# Altium schematic symbol library BLDC_Gimbal_Lib.SCHLIB: 57 symbols (part 2 of 2)
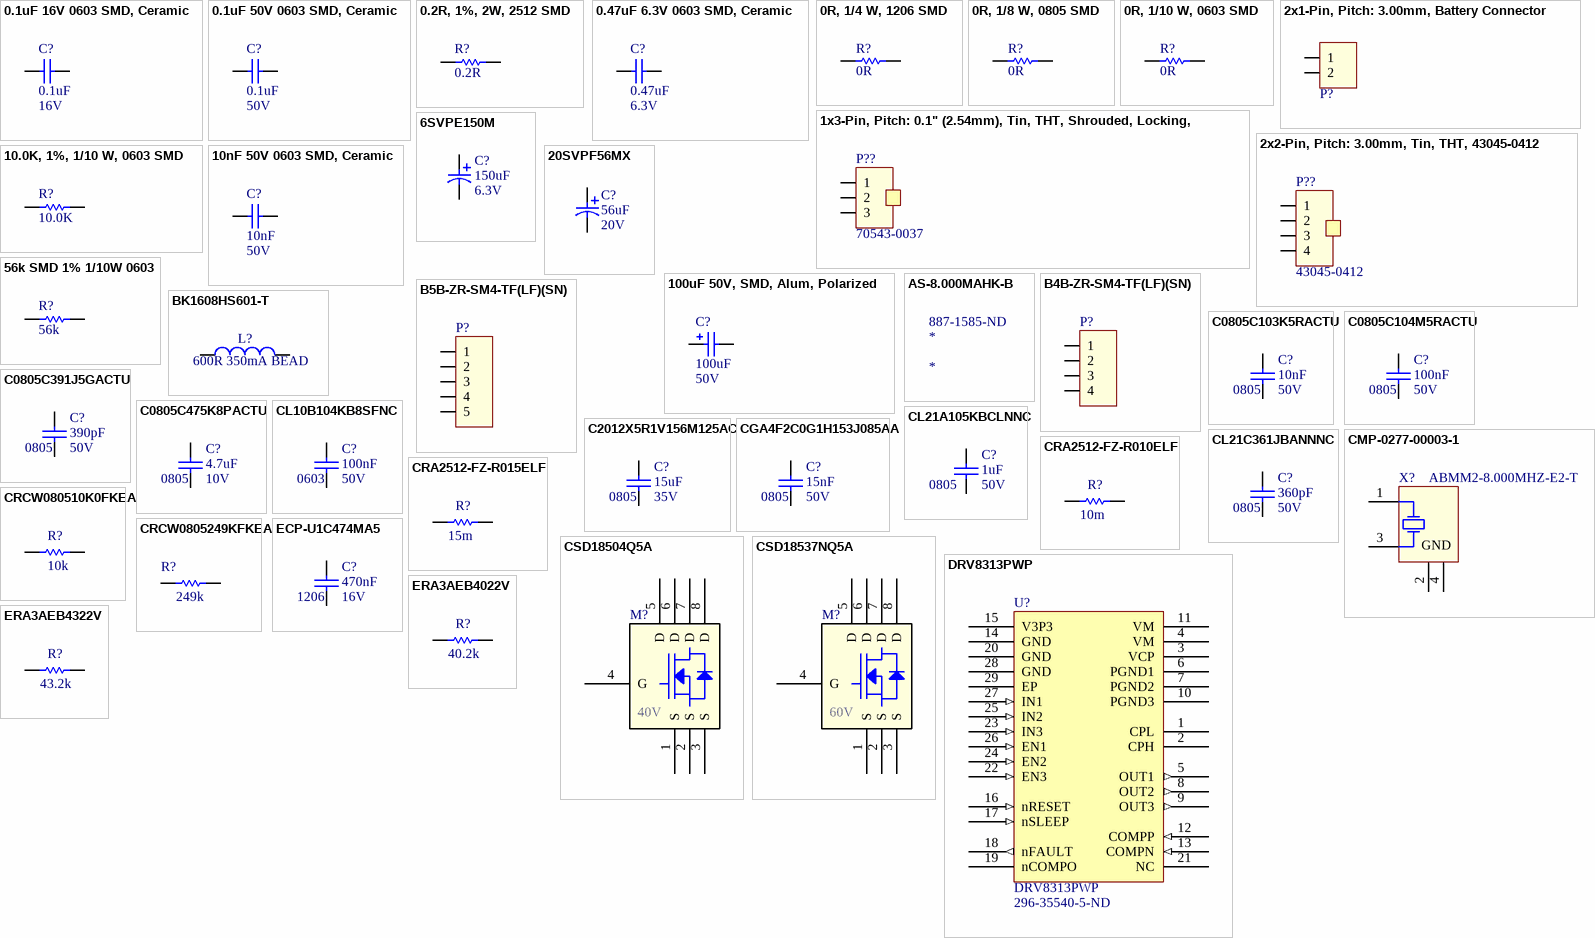
[diagram p2: symbols 0.1uF 16V 0603 SMD, Ceramic to ERA3AEB4322V]

## CSD18537NQ5A
designator M?  Drain to Source Voltage (Vdss): 60V  (hidden comment: *)
MOSFET N-CH 60V 50A 8-Pin VSON-FET EP T/R; Manufacturer: Texas Instruments; Manufacturer Part Number: CSD18537NQ5A; Rise Time: 4ns; Continuous Drain Current (ID): 62A; Gate to Source Voltage (Vgs): 20V; Fall Time: 3.2ns; Turn-Off Delay Time: 14.4ns; Turn-On Delay Time: 5.8ns; Rds On Max: 13mR; Input Capacitance: 1.48nF; Max Power Dissipation: 3.2W; Element Configuration: Single; Nominal Vgs: 3V; Number of Elements: 1; Supplier 1: Digi-Key; Stock 1: 21532; Pricing 1: 1 = 0.94000, 10 = 0.83000, 100 = 0.65610, 500 = 0.50882, 1000 = 0.40170 (USD); RoHS: Yes; Mount: Surface Mount; Number of Pins: 8; Contact Plating: Copper; Min Operating Temperature: -55°C; Max Operating Temperature: 150°C; Package Quantity: 2500; Packaging: Tape and Reel; Drain to Source Resistance: 13mR; Drain to Source Breakdown Voltage: 60V; Power Dissipation: 3.2W; Radiation Hardening: No; REACH SVHC: No SVHC; Lead Free: Contains Lead; ComponentLink1URL: https://datasheet.ciiva.com/24021/slps391a-316771-24021744.pdf?src-supplier=Mouser; ComponentLink1Description: https://datasheet.ciiva.com/24021/slps391a-316771-24021744.pdf?src-supplier=Mouser; ComponentLink2URL: https://datasheet.ciiva.com/23803/1762822-23803793.pdf?src-supplier=Newark; ComponentLink2Description: https://datasheet.ciiva.com/23803/1762822-23803793.pdf?src-supplier=Newark; ComponentLink3URL: https://datasheet.ciiva.com/29755/csd18537nq5a-29755636.pdf?src-supplier=Digi-Key; ComponentLink3Description: https://datasheet.ciiva.com/29755/csd18537nq5a-29755636.pdf?src-supplier=Digi-Key; ComponentLink4URL: https://datasheet.ciiva.com/25645/csd18537nq5a-25645525.pdf?src-supplier=Digi-Key; ComponentLink4Description: https://datasheet.ciiva.com/25645/csd18537nq5a-25645525.pdf?src-supplier=Digi-Key; ComponentLink5URL: https://datasheet.ciiva.com/30021/csd18537nq5a-30021926.pdf?src-supplier=Avnet; ComponentLink5Description: https://datasheet.ciiva.com/30021/csd18537nq5a-30021926.pdf?src-supplier=Avnet; ComponentLink6URL: https://datasheet.ciiva.com/30021/csd18537nq5a-30021927.pdf?src-supplier=Avnet; ComponentLink6Description: https://datasheet.ciiva.com/30021/csd18537nq5a-30021927.pdf?src-supplier=Avnet; ComponentLink7URL: https://datasheet.ciiva.com/18566/csd18537nq5a-18566856.pdf?src-supplier=Digi-Key; ComponentLink7Description: https://datasheet.ciiva.com/18566/csd18537nq5a-18566856.pdf?src-supplier=Digi-Key; Supplier Part Number 1: 296-36455-1-ND
footprint DQJ8
pins: 1 S, 2 S, 3 S, 4 G, 5 D, 6 D, 7 D, 8 D

## DRV8313PWP
designator U?  Supplier Part Number 1: 296-35540-5-ND
DRV8313 2.5-A Triple 1/2-H Bridge Driver; Mfg: Texas Instruments; Supplier 1: Digi-Key; LatestRevisionBy: *; LatestRevisionDate: *; LatestRevisionNote: *; Mfg#: DRV8313PWP; Published: 2017-11-16; Publisher: UVic AERO, Taylor Long; ReviewedBy: *; ReviewedDate: *; ReviewedNote: *; Verified: No
footprint HTSSOP-28 (TSOP, 28-Leads, Body 9.70x4.40mm, Pitch 0.65mm, Thermal Pad 5.18x3.10mm, IPC Medium Density)
pins: 1 CPL (power), 2 CPH (power), 3 VCP (power), 4 VM (power), 5 OUT1 (out), 6 PGND1 (power), 7 PGND2 (power), 8 OUT2 (out), 9 OUT3 (out), 10 PGND3 (power), 11 VM (power), 12 COMPP (in), 13 COMPN (in), 14 GND (power), 15 V3P3 (power), 16 nRESET (in), 17 nSLEEP (in), 18 nFAULT (out), 19 nCOMPO, 20 GND (power), 21 NC, 22 EN3 (in), 23 IN3 (in), 24 EN2 (in), 25 IN2 (in), 26 EN1 (in), 27 IN1 (in), 28 GND, 29 EP

## ECP-U1C474MA5
designator C?  Voltage Rating: 16V  Case Code (Imperial): 1206  Capacitance: 470nF  (hidden comment: *)
CAP FILM 0.47UF 20% 16VDC 1206; Manufacturer: Panasonic; Manufacturer Part Number: ECP-U1C474MA5; Dielectric: PPS; Insulation Resistance: 141MR; Supplier 1: Digi-Key; Stock 1: 70076; Pricing 1: 1 = 0.67000, 10 = 0.49500, 100 = 0.33950, 500 = 0.26876, 1000 = 0.22632 (USD); RoHS: Yes; Mount: Surface Mount; Case/Package: 1206; Case Code (Metric): 3216; Contact Plating: Copper; Min Operating Temperature: -40°C; Max Operating Temperature: 85°C; Tolerance: 20%; Packaging: Tape and Reel; Package Quantity: 2000; Voltage Rating (DC): 16V; Termination: SMD/SMT; Voltage: 16V; Length: 3.2mm; Height: 1.4mm; Depth: 1.6mm; Width: 1.6mm; Height - Seated (Max): 0.063inch; Radiation Hardening: No; REACH SVHC: No SVHC; Lead Free: Lead Free; ComponentLink1URL: https://datasheet.ciiva.com/11791/0900766b80f2ea72-11791506.pdf?src-supplier=RSComponents; ComponentLink1Description: https://datasheet.ciiva.com/11791/0900766b80f2ea72-11791506.pdf?src-supplier=RSComponents; ComponentLink2URL: https://datasheet.ciiva.com/15163/getdatasheetpartid-239730-15163927.pdf?src-supplier=Verical; ComponentLink2Description: https://datasheet.ciiva.com/15163/getdatasheetpartid-239730-15163927.pdf?src-supplier=Verical; ComponentLink3URL: https://datasheet.ciiva.com/11444/abd0000ce12-11444520.pdf?src-supplier=Avnet; ComponentLink3Description: https://datasheet.ciiva.com/11444/abd0000ce12-11444520.pdf?src-supplier=Avnet; ComponentLink4URL: https://datasheet.ciiva.com/17630/abd0000ce12-17630652.pdf?src-supplier=Avnet+Europe; ComponentLink4Description: https://datasheet.ciiva.com/17630/abd0000ce12-17630652.pdf?src-supplier=Avnet+Europe; ComponentLink5URL: https://datasheet.ciiva.com/5710/31740-5710142.pdf?src-supplier=Farnell; ComponentLink5Description: https://datasheet.ciiva.com/5710/31740-5710142.pdf?src-supplier=Farnell; ComponentLink6URL: https://datasheet.ciiva.com/2992/abd0000ce12-2992996.pdf?src-supplier=Avnet; ComponentLink6Description: https://datasheet.ciiva.com/2992/abd0000ce12-2992996.pdf?src-supplier=Avnet; ComponentLink7URL: https://datasheet.ciiva.com/46400/31740-46400042.pdf?src-supplier=Element14; ComponentLink7Description: https://datasheet.ciiva.com/46400/31740-46400042.pdf?src-supplier=Element14; ComponentLink8URL: https://datasheet.ciiva.com/46400/31740-46400043.pdf?src-supplier=Element14; ComponentLink8Description: https://datasheet.ciiva.com/46400/31740-46400043.pdf?src-supplier=Element14; Supplier Part Number 1: PCF1130CT-ND
footprint CAPC3216N(1206") (Chip Capacitor, Body 3.2x1.6mm (1206"), IPC Medium Density)
pins: 1, 2

## ERA3AEB4022V
designator R?  Resistance: 40.2k  (hidden comment: *)
RES SMD 40.2K OHM 0.1% 1/10W 0603; Manufacturer: Panasonic; Manufacturer Part Number: ERA3AEB4022V; Temperature Coefficient: 25ppm/°C; Power Rating: 100mW; Voltage Rating: 75V; Supplier 1: Digi-Key; Stock 1: 72800; Pricing 1: 1 = 0.35000, 10 = 0.30000, 100 = 0.11720, 1000 = 0.04906, 2500 = 0.04498 (USD); RoHS: Yes; Mount: Surface Mount; Case/Package: 0603; Number of Pins: 2; Contact Plating: Tin; Case Code (Metric): 1608; Case Code (Imperial): 0603; Min Operating Temperature: -55°C; Max Operating Temperature: 155°C; Tolerance: 0.1%; Composition: Thin Film; Packaging: Tape and Reel; Package Quantity: 1; Number of Terminations: 2; Military Standard: Not; Max Power Dissipation: 100mW; Voltage Rating (DC): 75V; Features: Automotive AEC-Q200; Length: 1.6mm; Height: 0.45mm; Width: 0.8mm; Depth: 0.8mm; Radiation Hardening: No; REACH SVHC: No SVHC; Lead Free: Lead Free; ComponentLink1URL: https://datasheet.ciiva.com/11809/0900766b80eb1d8c-11809819.pdf?src-supplier=RSComponents; ComponentLink1Description: https://datasheet.ciiva.com/11809/0900766b80eb1d8c-11809819.pdf?src-supplier=RSComponents; ComponentLink2URL: https://datasheet.ciiva.com/9189/aoa0000ce26-9189881.pdf?src-supplier=Avnet; ComponentLink2Description: https://datasheet.ciiva.com/9189/aoa0000ce26-9189881.pdf?src-supplier=Avnet; ComponentLink3URL: https://datasheet.ciiva.com/7870/485442-7870587.pdf?src-supplier=Element14; ComponentLink3Description: https://datasheet.ciiva.com/7870/485442-7870587.pdf?src-supplier=Element14; ComponentLink4URL: https://datasheet.ciiva.com/6129/485442-6129390.pdf?src-supplier=Farnell; ComponentLink4Description: https://datasheet.ciiva.com/6129/485442-6129390.pdf?src-supplier=Farnell; Supplier Part Number 1: P40.2KDBCT-ND
footprint RESC1608N(0603") (Chip Resistor, Body 1.6x0.8mm (0603"), IPC Medium Density)
pins: 1, 2

## ERA3AEB4322V
designator R?  Resistance: 43.2k  (hidden comment: *)
RES SMD 43.2K OHM 0.1% 1/10W 0603; Manufacturer: Panasonic; Manufacturer Part Number: ERA3AEB4322V; Temperature Coefficient: 25ppm/°C; Power Rating: 100mW; Voltage Rating: 75V; Supplier 1: Digi-Key; Stock 1: 70685; Pricing 1: 1 = 0.35000, 10 = 0.30000, 100 = 0.11720, 1000 = 0.04906, 2500 = 0.04498 (USD); RoHS: Yes; Mount: Surface Mount; Case/Package: 0603; Number of Pins: 2; Contact Plating: Tin; Case Code (Metric): 1608; Case Code (Imperial): 0603; Min Operating Temperature: -55°C; Max Operating Temperature: 155°C; Tolerance: 0.1%; Composition: Thin Film; Packaging: Tape and Reel; Package Quantity: 1; Number of Terminations: 2; Termination: SMD/SMT; Military Standard: Not; Max Power Dissipation: 100mW; Voltage Rating (DC): 75V; Features: Automotive AEC-Q200; Length: 1.6mm; Height: 0.45mm; Width: 0.8mm; Depth: 0.8mm; Radiation Hardening: No; REACH SVHC: No SVHC; Lead Free: Lead Free; ComponentLink1URL: https://datasheet.ciiva.com/11814/0900766b80eb1d8c-11814843.pdf?src-supplier=RSComponents; ComponentLink1Description: https://datasheet.ciiva.com/11814/0900766b80eb1d8c-11814843.pdf?src-supplier=RSComponents; ComponentLink2URL: https://datasheet.ciiva.com/7861/485442-7861685.pdf?src-supplier=Element14; ComponentLink2Description: https://datasheet.ciiva.com/7861/485442-7861685.pdf?src-supplier=Element14; ComponentLink3URL: https://datasheet.ciiva.com/5968/485442-5968894.pdf?src-supplier=Farnell; ComponentLink3Description: https://datasheet.ciiva.com/5968/485442-5968894.pdf?src-supplier=Farnell; ComponentLink4URL: https://datasheet.ciiva.com/9189/aoa0000ce26-9189639.pdf?src-supplier=Avnet; ComponentLink4Description: https://datasheet.ciiva.com/9189/aoa0000ce26-9189639.pdf?src-supplier=Avnet; ComponentLink5URL: https://datasheet.ciiva.com/5968/485442-5968890.pdf?src-supplier=Farnell; ComponentLink5Description: https://datasheet.ciiva.com/5968/485442-5968890.pdf?src-supplier=Farnell; Supplier Part Number 1: P43.2KDBCT-ND
footprint RESC1608N(0603") (Chip Resistor, Body 1.6x0.8mm (0603"), IPC Medium Density)
pins: 1, 2

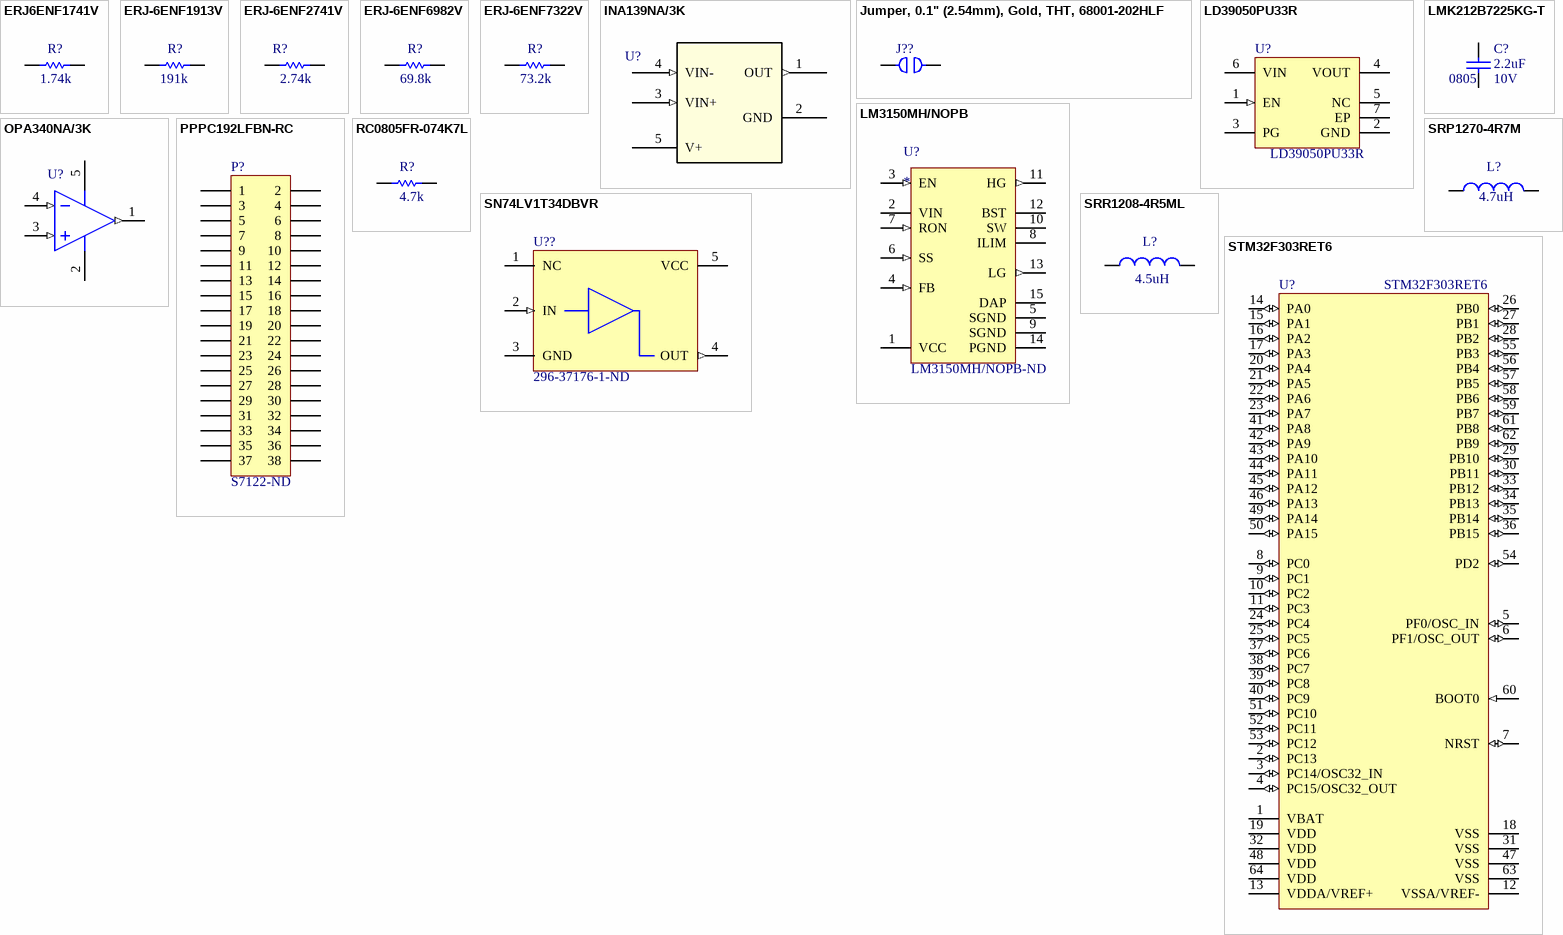
[diagram p1: symbols ERJ6ENF1741V to STM32F303RET6]

## ERJ6ENF1741V
designator R?  Resistance: 1.74k  (hidden comment: *)
RES SMD 1.74K OHM 1% 1/8W 0805; Manufacturer: Panasonic; Manufacturer Part Number: ERJ6ENF1741V; Power Rating: 125mW; Voltage Rating: 150V; Temperature Coefficient: 100ppm/°C; Supplier 1: Digi-Key; Stock 1: 142494; Pricing 1: 1 = 0.10000, 10 = 0.08100, 100 = 0.03110, 1000 = 0.01367, 2500 = 0.01181 (USD); RoHS: Yes; Mount: Surface Mount; Case/Package: 0805; Case Code (Metric): 2012; Case Code (Imperial): 0805; Contact Plating: Tin; Min Operating Temperature: -55°C; Max Operating Temperature: 155°C; Tolerance: 1%; Packaging: Tape and Reel; Package Quantity: 1; Composition: Thick Film; Number of Terminations: 2; Termination: SMD/SMT; Military Standard: Not; Max Power Dissipation: 125mW; Voltage Rating (DC): 150V; Features: Automotive AEC-Q200; Length: 2mm; Height: 0.6mm; Width: 0.049inch; Depth: 1.25mm; REACH SVHC: Unknown; Lead Free: Lead Free; ComponentLink1URL: https://datasheet.ciiva.com/3883/3984280s8821682n1386-3883650.pdf?src-supplier=Arrow; ComponentLink1Description: https://datasheet.ciiva.com/3883/3984280s8821682n1386-3883650.pdf?src-supplier=Arrow; ComponentLink2URL: https://datasheet.ciiva.com/22743/1678782-22743561.pdf?src-supplier=Farnell; ComponentLink2Description: https://datasheet.ciiva.com/22743/1678782-22743561.pdf?src-supplier=Farnell; ComponentLink3URL: https://datasheet.ciiva.com/46437/1678782-46437836.pdf?src-supplier=Element14; ComponentLink3Description: https://datasheet.ciiva.com/46437/1678782-46437836.pdf?src-supplier=Element14; ComponentLink4URL: https://datasheet.ciiva.com/22682/1678782-22682493.pdf?src-supplier=Element14; ComponentLink4Description: https://datasheet.ciiva.com/22682/1678782-22682493.pdf?src-supplier=Element14; ComponentLink5URL: https://datasheet.ciiva.com/9197/aoa0000ce2-9197802.pdf?src-supplier=Avnet; ComponentLink5Description: https://datasheet.ciiva.com/9197/aoa0000ce2-9197802.pdf?src-supplier=Avnet; ComponentLink6URL: https://datasheet.ciiva.com/24071/aoa0000ce2-24071082.pdf?src-supplier=Mouser; ComponentLink6Description: https://datasheet.ciiva.com/24071/aoa0000ce2-24071082.pdf?src-supplier=Mouser; ComponentLink7URL: https://datasheet.ciiva.com/16762/70260748-16762251.pdf?src-supplier=Allied+Electronics; ComponentLink7Description: https://datasheet.ciiva.com/16762/70260748-16762251.pdf?src-supplier=Allied+Electronics; Supplier Part Number 1: P1.74KCCT-ND
footprint RESC2012N(0805") (Chip Resistor, Body 2.0x1.3mm (0805"), IPC Medium Density)
pins: 1, 2

## ERJ-6ENF1913V
designator R?  Resistance: 191k  (hidden comment: *)
RES SMD 191K OHM 1% 1/8W 0805; Manufacturer: Panasonic; Manufacturer Part Number: ERJ-6ENF1913V; Power Rating: 125mW; Voltage Rating: 150V; Temperature Coefficient: 100ppm/°C; Supplier 1: Digi-Key; Stock 1: 22046; Pricing 1: 1 = 0.10000, 10 = 0.08100, 100 = 0.03110, 1000 = 0.01367, 2500 = 0.01181 (USD); RoHS: Yes; Mount: Surface Mount; Case/Package: 0805; Case Code (Imperial): 0805; Case Code (Metric): 2012; Contact Plating: Tin; Min Operating Temperature: -55°C; Max Operating Temperature: 155°C; Tolerance: 1%; Packaging: Tape and Reel; Package Quantity: 1; Composition: Thick Film; Number of Terminations: 2; Military Standard: Not; Max Power Dissipation: 125mW; Voltage Rating (DC): 150V; Features: Automotive AEC-Q200; Length: 2mm; Height: 0.028inch; Width: 1.2mm; Depth: 1.25mm; REACH SVHC: No SVHC; Lead Free: Lead Free; ComponentLink1URL: https://datasheet.ciiva.com/22729/1678782-22729194.pdf?src-supplier=Farnell; ComponentLink1Description: https://datasheet.ciiva.com/22729/1678782-22729194.pdf?src-supplier=Farnell; Supplier Part Number 1: P191KCCT-ND
footprint RESC2012N(0805") (Chip Resistor, Body 2.0x1.3mm (0805"), IPC Medium Density)
pins: 1, 2

## ERJ-6ENF2741V
designator R?  Resistance: 2.74k  (hidden comment: *)
RES SMD 2.74K OHM 1% 1/8W 0805; Manufacturer: Panasonic; Manufacturer Part Number: ERJ-6ENF2741V; Voltage Rating: 150V; Power Rating: 125mW; Temperature Coefficient: 100ppm/°C; Supplier 1: Digi-Key; Stock 1: 212786; Pricing 1: 1 = 0.10000, 10 = 0.08100, 100 = 0.03110, 1000 = 0.01367, 2500 = 0.01181 (USD); RoHS: Yes; Mount: Surface Mount; Case/Package: 0805; Weight: 0.000194oz; Case Code (Metric): 2012; Case Code (Imperial): 0805; Contact Plating: Tin; Min Operating Temperature: -55°C; Max Operating Temperature: 155°C; Tolerance: 1%; Packaging: Tape and Reel; Package Quantity: 5000; Composition: Thick Film; Number of Terminations: 2; Termination: SMD/SMT; Military Standard: Not; Max Power Dissipation: 125mW; Voltage Rating (DC): 150V; Length: 2mm; Height: 0.6mm; Width: 0.049inch; Depth: 1.25mm; Radiation Hardening: No; REACH SVHC: No SVHC; Lead Free: Lead Free; ComponentLink1URL: https://datasheet.ciiva.com/34303/1989210-34303628.pdf?src-supplier=Jameco; ComponentLink1Description: https://datasheet.ciiva.com/34303/1989210-34303628.pdf?src-supplier=Jameco; ComponentLink2URL: https://datasheet.ciiva.com/16773/70260748-16773765.pdf?src-supplier=Allied+Electronics; ComponentLink2Description: https://datasheet.ciiva.com/16773/70260748-16773765.pdf?src-supplier=Allied+Electronics; ComponentLink3URL: https://datasheet.ciiva.com/46389/426256-46389477.pdf?src-supplier=Element14; ComponentLink3Description: https://datasheet.ciiva.com/46389/426256-46389477.pdf?src-supplier=Element14; ComponentLink4URL: https://datasheet.ciiva.com/6129/426256-6129654.pdf?src-supplier=Farnell; ComponentLink4Description: https://datasheet.ciiva.com/6129/426256-6129654.pdf?src-supplier=Farnell; ComponentLink5URL: https://datasheet.ciiva.com/30134/aoa0000ce2-30134518.pdf?src-supplier=Onlinecomponents.com; ComponentLink5Description: https://datasheet.ciiva.com/30134/aoa0000ce2-30134518.pdf?src-supplier=Onlinecomponents.com; ComponentLink6URL: https://datasheet.ciiva.com/24162/aoa0000ce2-24162695.pdf?src-supplier=Mouser; ComponentLink6Description: https://datasheet.ciiva.com/24162/aoa0000ce2-24162695.pdf?src-supplier=Mouser; ComponentLink7URL: https://datasheet.ciiva.com/9196/aoa0000ce2-9196826.pdf?src-supplier=Avnet; ComponentLink7Description: https://datasheet.ciiva.com/9196/aoa0000ce2-9196826.pdf?src-supplier=Avnet; ComponentLink8URL: https://datasheet.ciiva.com/15159/getdatasheetpartid-32746-15159322.pdf?src-supplier=Verical; ComponentLink8Description: https://datasheet.ciiva.com/15159/getdatasheetpartid-32746-15159322.pdf?src-supplier=Verical; ComponentLink9URL: https://datasheet.ciiva.com/46377/426256-46377834.pdf?src-supplier=Element14; ComponentLink9Description: https://datasheet.ciiva.com/46377/426256-46377834.pdf?src-supplier=Element14; ComponentLink10URL: https://datasheet.ciiva.com/28531/1678782-28531694.pdf?src-supplier=Element14; ComponentLink10Description: https://datasheet.ciiva.com/28531/1678782-28531694.pdf?src-supplier=Element14; Supplier Part Number 1: P2.74KCCT-ND
footprint RESC2012N(0805") (Chip Resistor, Body 2.0x1.3mm (0805"), IPC Medium Density)
pins: 1, 2

## ERJ-6ENF6982V
designator R?  Resistance: 69.8k  (hidden comment: *)
RES SMD 69.8K OHM 1% 1/8W 0805; Manufacturer: Panasonic; Manufacturer Part Number: ERJ-6ENF6982V; Voltage Rating: 150V; Power Rating: 125mW; Temperature Coefficient: 100ppm/°C; Supplier 1: Digi-Key; Stock 1: 129613; Pricing 1: 1 = 0.10000, 10 = 0.08100, 100 = 0.03110, 1000 = 0.01367, 2500 = 0.01181 (USD); RoHS: Yes; Mount: Surface Mount; Case/Package: 0805; Case Code (Metric): 2012; Case Code (Imperial): 0805; Contact Plating: Tin; Min Operating Temperature: -55°C; Max Operating Temperature: 155°C; Packaging: Tape and Reel; Tolerance: 1%; Package Quantity: 1; Composition: Thick Film; Number of Terminations: 2; Termination: SMD/SMT; Military Standard: Not; Max Power Dissipation: 125mW; Voltage Rating (DC): 150V; Features: Automotive AEC-Q200; Length: 2mm; Height: 0.6mm; Width: 0.049inch; Depth: 1.25mm; Height - Seated (Max): 0.028inch; Radiation Hardening: No; REACH SVHC: Unknown; Lead Free: Lead Free; ComponentLink1URL: https://datasheet.ciiva.com/22682/1678782-22682501.pdf?src-supplier=Element14; ComponentLink1Description: https://datasheet.ciiva.com/22682/1678782-22682501.pdf?src-supplier=Element14; ComponentLink2URL: https://datasheet.ciiva.com/24027/aoa0000ce2-24027573.pdf?src-supplier=Mouser; ComponentLink2Description: https://datasheet.ciiva.com/24027/aoa0000ce2-24027573.pdf?src-supplier=Mouser; ComponentLink3URL: https://datasheet.ciiva.com/7937/aoa0000ce2-7937462.pdf?src-supplier=Element14; ComponentLink3Description: https://datasheet.ciiva.com/7937/aoa0000ce2-7937462.pdf?src-supplier=Element14; ComponentLink4URL: https://datasheet.ciiva.com/22730/1678782-22730040.pdf?src-supplier=Farnell; ComponentLink4Description: https://datasheet.ciiva.com/22730/1678782-22730040.pdf?src-supplier=Farnell; ComponentLink5URL: https://datasheet.ciiva.com/28592/1694929-28592344.pdf?src-supplier=Element14; ComponentLink5Description: https://datasheet.ciiva.com/28592/1694929-28592344.pdf?src-supplier=Element14; ComponentLink6URL: https://datasheet.ciiva.com/9187/aoa0000ce2-9187962.pdf?src-supplier=Avnet; ComponentLink6Description: https://datasheet.ciiva.com/9187/aoa0000ce2-9187962.pdf?src-supplier=Avnet; ComponentLink7URL: https://datasheet.ciiva.com/16789/70260748-16789163.pdf?src-supplier=Allied+Electronics; ComponentLink7Description: https://datasheet.ciiva.com/16789/70260748-16789163.pdf?src-supplier=Allied+Electronics; Supplier Part Number 1: P69.8KCCT-ND
footprint RESC2012N(0805") (Chip Resistor, Body 2.0x1.3mm (0805"), IPC Medium Density)
pins: 1, 2

## ERJ-6ENF7322V
designator R?  Resistance: 73.2k  (hidden comment: *)
RES SMD 73.2K OHM 1% 1/8W 0805; Manufacturer: Panasonic; Manufacturer Part Number: ERJ-6ENF7322V; Power Rating: 125mW; Voltage Rating: 150V; Temperature Coefficient: 100ppm/°C; Supplier 1: Digi-Key; Stock 1: 155375; Pricing 1: 1 = 0.10000, 10 = 0.08100, 100 = 0.03110, 1000 = 0.01367, 2500 = 0.01181 (USD); RoHS: Yes; Mount: Surface Mount; Case/Package: 0805; Case Code (Metric): 2012; Case Code (Imperial): 0805; Contact Plating: Tin; Min Operating Temperature: -55°C; Max Operating Temperature: 155°C; Tolerance: 1%; Packaging: Tape and Reel; Package Quantity: 1; Composition: Thick Film; Number of Terminations: 2; Termination: SMD/SMT; Military Standard: Not; Max Power Dissipation: 125mW; Voltage Rating (DC): 150V; Features: Automotive AEC-Q200; Length: 2mm; Height: 0.028inch; Width: 0.049inch; Depth: 1.25mm; REACH SVHC: Yes; Lead Free: Contains Lead; ComponentLink1URL: https://datasheet.ciiva.com/22682/1678782-22682502.pdf?src-supplier=Element14; ComponentLink1Description: https://datasheet.ciiva.com/22682/1678782-22682502.pdf?src-supplier=Element14; ComponentLink2URL: https://datasheet.ciiva.com/7862/aoa0000ce2-7862010.pdf?src-supplier=Element14; ComponentLink2Description: https://datasheet.ciiva.com/7862/aoa0000ce2-7862010.pdf?src-supplier=Element14; ComponentLink3URL: https://datasheet.ciiva.com/15830/aoa0000ce2-15830506.pdf?src-supplier=Onlinecomponents.com; ComponentLink3Description: https://datasheet.ciiva.com/15830/aoa0000ce2-15830506.pdf?src-supplier=Onlinecomponents.com; ComponentLink4URL: https://datasheet.ciiva.com/46373/1678782-46373845.pdf?src-supplier=Element14; ComponentLink4Description: https://datasheet.ciiva.com/46373/1678782-46373845.pdf?src-supplier=Element14; ComponentLink5URL: https://datasheet.ciiva.com/9187/aoa0000ce2-9187800.pdf?src-supplier=Avnet; ComponentLink5Description: https://datasheet.ciiva.com/9187/aoa0000ce2-9187800.pdf?src-supplier=Avnet; ComponentLink6URL: https://datasheet.ciiva.com/24061/aoa0000ce2-24061742.pdf?src-supplier=Mouser; ComponentLink6Description: https://datasheet.ciiva.com/24061/aoa0000ce2-24061742.pdf?src-supplier=Mouser; Supplier Part Number 1: P73.2KCCT-ND
footprint RESC2012N(0805") (Chip Resistor, Body 2.0x1.3mm (0805"), IPC Medium Density)
pins: 1, 2

## INA139NA/3K
designator U?, comment Part Number: INA139NA/3K  (value not drawn)
Votlage Comparator; Manufacturer: Texas Instruments; Built_By: EMA_UL_Team; Min Supply Voltage: 2.7V; Max Supply Voltage: 40V; Number of Channels: 1; Common Mode Rejection Ratio: 100dB; Nominal Supply Current: 125uA; Input Offset Voltage (Vos): 1mV; Input Bias Current: 10uA; Accuracy: 0.5%; Bandwidth: 440kHz; Manufacturer_Part_Number: INA139NA/3K; Vendor: Texas Instruments; Copyright: Copyright (C) 2018 Accelerated Designs. All rights reserved; RefDes: RefDes; Type: DEV; Value: Value; Supplier 1: Digi-Key; Manufacturer Part Number: INA139NA/3K; Stock 1: 23950; Pricing 1: 1 = 1.74000, 10 = 1.56100, 100 = 1.25490, 500 = 1.03104, 1000 = 0.85428 (USD); RoHS: Yes; Mount: Surface Mount; Case/Package: SOT-23; Number of Pins: 5; Weight: 0.000617oz; Min Operating Temperature: -40°C; Max Operating Temperature: 125°C; Packaging: Tape and Reel; Package Quantity: 3000; Number of Elements: 1; Radiation Hardening: No; Lead Free: Lead Free; ComponentLink1URL: https://datasheet.ciiva.com/15128/getdatasheetpartid-248784-15128606.pdf?src-supplier=Verical; ComponentLink1Description: https://datasheet.ciiva.com/15128/getdatasheetpartid-248784-15128606.pdf?src-supplier=Verical; ComponentLink2URL: https://datasheet.ciiva.com/26875/ina139na-3k-26875768.pdf?src-supplier=IIIC; ComponentLink2Description: https://datasheet.ciiva.com/26875/ina139na-3k-26875768.pdf?src-supplier=IIIC; ComponentLink3URL: https://datasheet.ciiva.com/2976/ina169-2976115.pdf?src-supplier=Avnet; ComponentLink3Description: https://datasheet.ciiva.com/2976/ina169-2976115.pdf?src-supplier=Avnet; ComponentLink4URL: https://datasheet.ciiva.com/1939/ina139-1939992.pdf?src-supplier=Digi-Key; ComponentLink4Description: https://datasheet.ciiva.com/1939/ina139-1939992.pdf?src-supplier=Digi-Key; ComponentLink5URL: https://datasheet.ciiva.com/1939/ina139-1939993.pdf?src-supplier=Digi-Key; ComponentLink5Description: https://datasheet.ciiva.com/1939/ina139-1939993.pdf?src-supplier=Digi-Key; ComponentLink6URL: https://datasheet.ciiva.com/1939/ina139-1939994.pdf?src-supplier=Digi-Key; ComponentLink6Description: https://datasheet.ciiva.com/1939/ina139-1939994.pdf?src-supplier=Digi-Key; Supplier Part Number 1: 296-26061-1-ND
footprint DBV5
footprint DBV5-L
footprint DBV5-M
pins: 1 OUT (out), 2 GND (power), 3 VIN+ (in), 4 VIN- (in), 5 V+ (power)

## Jumper, 0.1" (2.54mm), Gold, THT, 68001-202HLF
designator J??, comment 3M9580-ND  (value not drawn)
Jumper, 0.1" (2.54mm), Gold, THT, 68001-202HLF & 3M9580-ND; Mfg: FCI; Publisher: UVic AERO, Kirk Richardson; Published: 2014-10-19; LatestRevisionNote: *; LatestRevisionDate: *; Mfg#: 68001-202HLF; Verified: No; ReviewedBy: *; ReviewedDate: *; LatestRevisionBy: *; Supplier 1: Digi-Key; Supplier 2: Digi-Key; Supplier Part Number 1: 3M9580-ND; Supplier Part Number 2: 609-3469-ND
footprint Jumper-2Pin, THT (Jumper, 2-Pin, 0.1" Pitch, Unshrouded, THT)
pins: 1, 2

## LD39050PU33R
designator U?
500 mA Low Quiescent Current Low Noise Voltage Regulator, 3.3V, 6-Pin VDFDPN, Tape and Reel CMP-0244-00288-; PackageReference: DFN6D; ComponentLink1Description: Manufacturer URL; ComponentLink1URL: http://www.st.com; PackageVersion: 2008; PackageDescription: 6-Pin Plastic, Dual LLP, 3 x 3 mm Body, 0.95 mm Pitch, Exposed Pad; ComponentLink2URL: http://www.st.com/internet/com/TECHNICAL_RESOURCES/TECHNICAL_LITERATURE/DATASHEET/CD00227527.pdf; DatasheetVersion: 1/03/2009; ComponentLink2Description: Datasheet
footprint LDO3_3-DFN6D_M (SON, 6-Leads, Body 3x3mm, Pitch 0.95mm, Thermal Pad 2.4x1.65mm, IPC Low Density)
pins: 1 EN (in), 2 GND (power), 3 PG (oc), 4 VOUT (power), 5 NC, 6 VIN (power), 7 EP (power)

## LM3150MH/NOPB
designator U?  Supplier Part Number 1: LM3150MH/NOPB-ND
LM3150 - DC DC Cntrlr Single-OUT Step Down 6V to 42V Input 14-Pin HTSSOP EP Tube; Manufacturer: TI National Semiconductor; Manufacturer Part Number: LM3150MH/NOPB; Number of Outputs: 1; Output Current: 12A; Output Voltage: 600mV; Max Frequency: 1MHz; Duty Cycle: 95%; Quiescent Current: 3.5mA; Supplier 1: Digi-Key; Stock 1: 2498; Pricing 1: 1 = 3.78000, 10 = 3.39400, 94 = 3.20851, 188 = 2.78069, 564 = 2.36716, 1034 = 1.99640, 2538 = 1.89658, 5076 = 1.82528 (USD); RoHS: Yes; Mount: Surface Mount; Case/Package: HTSSOP EP; Number of Pins: 14; Contact Plating: Tin; Min Operating Temperature: -40°C; Max Operating Temperature: 125°C; Packaging: Rail/Tube; Features: UVLO; Max Input Voltage: 42V; Min Input Voltage: 6V; Switching Frequency: 1MHz; Min Supply Voltage: 6V; Max Supply Voltage: 42V; Min Output Voltage: 600mV; Length: 5mm; Height: 0.9mm; Width: 4.4mm; Radiation Hardening: No; REACH SVHC: No SVHC; Lead Free: Lead Free; ComponentLink1URL: https://datasheet.ciiva.com/15113/getdatasheetpartid-147301-15113226.pdf?src-supplier=Verical; ComponentLink1Description: https://datasheet.ciiva.com/15113/getdatasheetpartid-147301-15113226.pdf?src-supplier=Verical
footprint PWP0014A_M (SOP, 14-Leads, Body 5.1x4.5mm, Pitch 0.65mm, Thermal Pad 3x3.1mm, IPC Low Density)
pins: 1 VCC (power), 2 VIN (power), 3 EN (in), 4 FB (in), 5 SGND (power), 6 SS (in), 7 RON (in), 8 ILIM, 9 SGND (power), 10 SW (power), 11 HG (out), 12 BST, 13 LG (out), 14 PGND (power), 15 DAP (power)

## LMK212B7225KG-T
designator C?  Capacitance: 2.2uF  Voltage Rating: 10V  Case/Package: 0805  (hidden comment: *)
CAP CER 2.2UF 10V X7R 0805; Manufacturer: Taiyo Yuden; Manufacturer Part Number: LMK212B7225KG-T; Tolerance: 10%; Supplier 1: Digi-Key; Stock 1: 73012; Pricing 1: 1 = 0.21000, 10 = 0.14600, 100 = 0.06880, 500 = 0.04822, 1000 = 0.03993 (USD); RoHS: Yes; Mount: Surface Mount; Case Code (Imperial): 0805; Case Code (Metric): 2012; Min Operating Temperature: -55°C; Max Operating Temperature: 125°C; Dielectric: X7R; Packaging: Tape and Reel; Package Quantity: 1; Voltage Rating (DC): 10V; Termination: SMD/SMT; Composition: Ceramic; Length: 2mm; Height: 1.25mm; Depth: 1.25mm; Width: 1.25mm; Thickness: 0.053inch; Radiation Hardening: No; Lead Free: Lead Free; REACH SVHC: Unknown; Halogen Free: Halogen Free; ComponentLink1URL: https://datasheet.ciiva.com/11464/lmk212b7225kg-t-ss-11464065.pdf?src-supplier=Avnet; ComponentLink1Description: https://datasheet.ciiva.com/11464/lmk212b7225kg-t-ss-11464065.pdf?src-supplier=Avnet; ComponentLink2URL: https://datasheet.ciiva.com/30097/950lmk212b7225kg-t-30097799.pdf?src-supplier=Onlinecomponents.com; ComponentLink2Description: https://datasheet.ciiva.com/30097/950lmk212b7225kg-t-30097799.pdf?src-supplier=Onlinecomponents.com; ComponentLink3URL: https://datasheet.ciiva.com/15921/1069lmk212b7225kg-t-15921336.pdf?src-supplier=Onlinecomponents.com; ComponentLink3Description: https://datasheet.ciiva.com/15921/1069lmk212b7225kg-t-15921336.pdf?src-supplier=Onlinecomponents.com; ComponentLink4URL: https://datasheet.ciiva.com/26872/getdatasheetpartid-637084-26872681.pdf?src-supplier=Verical; ComponentLink4Description: https://datasheet.ciiva.com/26872/getdatasheetpartid-637084-26872681.pdf?src-supplier=Verical; Supplier Part Number 1: 587-1286-1-ND
footprint CAPC2012N(0805") (Chip Capacitor, Body 2.0x1.3mm (0805"), IPC Medium Density)
pins: 1, 2

## OPA340NA/3K
designator U?  (value not drawn)
Single-Supply, Rail-to-Rail Operational Amplifier MicroAmplifier(TM) Series, 2.7 to 5.5 V, -40 to 85 degC, 5-pin SOT23 (DBV5), Green (RoHS & no Sb/Br) CMP-0272-00929-3; Manufacturer: Texas Instruments; Vio (25C)(Max)(mV): 0.5; CMRR(Min)(dB): 80; IIB(Max)(pA): 10; Number of Channels: 1; Total Supply Voltage(Min)(+5V is 5, +/-5V is 10): 2.7; Iq per channel(Max)(mA): 0.95; Slew Rate(Typ)(V/us): 6; Offset Drift(Typ)(uV/C): 2.5; Total Supply Voltage(Max)(+5V is 5, +/-5V is 10): 5.5; Sub Family: Low Input Bias Current Amp (<=10pA), Low Offset Voltage Amplifier (<=500uV), Low Supply Voltage Amplifier (<=2.7V), Precision Amplifier; Vn at 1kHz(Typ)(nV/rtHz): 25; PackageVersion: 4073253-4/K, 03/2006; PackageDescription: 5-Pin Plastic Small Outline, Body 1.6 x 2.9 mm, Pitch 0.95 mm; ComponentLink3URL: http://www.ti.com/litv/pdf/mpds018i; DatasheetVersion: SBOS073B; ComponentLink1Description: Manufacturer URL; ComponentLink1URL: http://www.ti.com/; Eco-Plan: Green (RoHS & no Sb/Br); Code_JEDEC: MO-178; ComponentLink3Description: Package Specification; ComponentLink2URL: http://www.ti.com/general/docs/lit/getliterature.tsp?genericPartNumber=OPA340&fileType=pdf; ComponentLink2Description: Datasheet; PackageReference: DBV0005A; PartNumber: OPA340NA/3K; Mounting Technology: Surface Mount
footprint DBV0005A_M (SOT23, 5-Leads, Body 3.05x1.75mm, Pitch 0.95mm, IPC Low Density)
footprint DBV0005A_L (SOT23, 5-Leads, Body 3.05x1.75mm, Pitch 0.95mm, IPC High Density)
footprint DBV0005A_N (SOT23, 5-Leads, Body 3.05x1.75mm, Pitch 0.95mm, IPC Medium Density)
pins: 1 OUT (out), 2 V- (power), 3 IN+ (in), 4 IN- (in), 5 V+ (power)

## PPPC192LFBN-RC
designator P?  Supplier Part Number 1: S7122-ND  (hidden comment: PPPC192LFBN-RC)
CONN HDR 38POS 0.1 GOLD PCB; Manufacturer: Sullins; Number of Positions: 38; Connector Type: Header; Pitch: 0.1inch; Supplier 1: Digi-Key; Manufacturer Part Number: PPPC192LFBN-RC; Stock 1: 3549; Pricing 1: 1 = 2.26000, 10 = 2.05100, 100 = 1.75770, 500 = 1.46476, 1000 = 1.25550, 5000 = 1.20900 (USD); RoHS: Yes; Mount: Through Hole; Color: Black; Contact Plating: Gold; Contact Material: Bronze; Housing Material: Plastic; Package Quantity: 1000; Number of Rows: 2; Packaging: Bulk; Termination: Solder; Length: 48.8mm; Height: 8.5mm; Row Spacing: 0.1inch; Width: 5mm; Lead Free: Lead Free; ComponentLink1URL: https://media.digikey.com/pdf/Data%20Sheets/Sullins%20PDFs/Female_Headers.100_DS.pdf?src-supplier=Digi-Key; ComponentLink1Description: https://media.digikey.com/pdf/Data%20Sheets/Sullins%20PDFs/Female_Headers.100_DS.pdf?src-supplier=Digi-Key
footprint HEADER-38PIN
pins: 1, 2, 3, 4, 5, 6, 7, 8, 9, 10, 11, 12, 13, 14, 15, 16, 17, 18, 19, 20, 21, 22, 23, 24, 25, 26, 27, 28, 29, 30, 31, 32, 33, 34, 35, 36, 37, 38

## RC0805FR-074K7L
designator R?, comment 4.7k
RES SMD 4.7k ohm, 150 V, 0805 [2012 Metric], 250 mW,  1%; Manufacturer: Yageo; Manufacturer Part Number: RC0805FR-074K7L; Resistance: 4.7kR; Temperature Coefficient: 100ppm/°C; Voltage Rating (DC): 150V; Power Rating: 125mW; Supplier 1: Digi-Key; Stock 1: 5392599; Pricing 1: 1 = 0.10000, 10 = 0.04200, 100 = 0.01700, 1000 = 0.00762, 2500 = 0.00662 (USD); RoHS: Yes; Case/Package: 0805; Number of Pins: 2; Case Code (Metric): 2012; Case Code (Imperial): 0805; Min Operating Temperature: -55°C; Max Operating Temperature: 155°C; Tolerance: 1%; Composition: Thick Film; Packaging: Tape and Reel; Package Quantity: 5000; Voltage Rating: 150V; Number of Terminations: 2; Termination: SMD/SMT; Military Standard: Not; Max Power Dissipation: 125mW; Features: Moisture Resistant; Length: 0.079inch; Height: 0.024inch; Width: 0.049inch; Depth: 1.25mm; REACH SVHC: No SVHC; Lead Free: Lead Free; ComponentLink1URL: https://datasheet.ciiva.com/11808/0900766b8106beab-11808155.pdf?src-supplier=RSComponents; ComponentLink1Description: https://datasheet.ciiva.com/11808/0900766b8106beab-11808155.pdf?src-supplier=RSComponents; ComponentLink2URL: https://datasheet.ciiva.com/7941/1686128-7941805.pdf?src-supplier=Element14; ComponentLink2Description: https://datasheet.ciiva.com/7941/1686128-7941805.pdf?src-supplier=Element14; ComponentLink3URL: https://datasheet.ciiva.com/7941/444164-7941806.pdf?src-supplier=Element14; ComponentLink3Description: https://datasheet.ciiva.com/7941/444164-7941806.pdf?src-supplier=Element14; ComponentLink4URL: https://datasheet.ciiva.com/6547/pyu-r-int-thick-7-6547263.pdf?src-supplier=Digi-Key; ComponentLink4Description: https://datasheet.ciiva.com/6547/pyu-r-int-thick-7-6547263.pdf?src-supplier=Digi-Key; ComponentLink5URL: https://datasheet.ciiva.com/7941/444164-7941804.pdf?src-supplier=Element14; ComponentLink5Description: https://datasheet.ciiva.com/7941/444164-7941804.pdf?src-supplier=Element14; ComponentLink6URL: https://datasheet.ciiva.com/46447/444164-46447583.pdf?src-supplier=Element14; ComponentLink6Description: https://datasheet.ciiva.com/46447/444164-46447583.pdf?src-supplier=Element14; Supplier Part Number 1: 311-4.70KCRCT-ND
footprint RESC2012N(0805") (Chip Resistor, Body 2.0x1.3mm (0805"), IPC Medium Density)
pins: 1, 2

## SN74LV1T34DBVR
designator U??  Supplier Part Number 1: 296-37176-1-ND  (hidden comment: SN74LV1T34DBVR)
IC BUF NON-INVERT 5.5V SOT23-5; Manufacturer: Texas Instruments; Number of Elements: 1; Logic Function: Buffer; Min Supply Voltage: 1.6V; High Level Output Current: -8mA; Low Level Output Current: 8mA; Polarity: Non-Inverting; Propagation Delay: 15.5ns; Quiescent Current: 1uA; Supplier 1: Digi-Key; Manufacturer Part Number: SN74LV1T34DBVR; Stock 1: 20051; Pricing 1: 1 = 0.47000, 10 = 0.37800, 100 = 0.25710, 500 = 0.19282, 1000 = 0.14461 (USD); RoHS: Yes; Mount: Surface Mount; Case/Package: SOT-23-5; Number of Pins: 5; Weight: 0.000353oz; Min Operating Temperature: -40°C; Max Operating Temperature: 125°C; Package Quantity: 3000; Packaging: Tape and Reel; Max Supply Voltage: 5.5V; Number of Bits per Element: 1; Number of Input Lines: 1; Number of Output Lines: 1; Operating Supply Current: 8mA; Number of Channels: 1; Number of Inputs: 1; Number of Outputs: 1; Number of Bits: 1; Radiation Hardening: No; REACH SVHC: No SVHC; Lead Free: Lead Free; ComponentLink1URL: https://datasheet.ciiva.com/29634/sn74lv1t34-29634758.pdf?src-supplier=Digi-Key; ComponentLink1Description: https://datasheet.ciiva.com/29634/sn74lv1t34-29634758.pdf?src-supplier=Digi-Key; ComponentLink2URL: https://datasheet.ciiva.com/29634/sn74lv1t34-29634759.pdf?src-supplier=Digi-Key; ComponentLink2Description: https://datasheet.ciiva.com/29634/sn74lv1t34-29634759.pdf?src-supplier=Digi-Key; ComponentLink3URL: https://datasheet.ciiva.com/29634/sn74lv1t34-29634760.pdf?src-supplier=Digi-Key; ComponentLink3Description: https://datasheet.ciiva.com/29634/sn74lv1t34-29634760.pdf?src-supplier=Digi-Key; ComponentLink4URL: https://datasheet.ciiva.com/29888/sn74lv1t34-29888041.pdf?src-supplier=Avnet; ComponentLink4Description: https://datasheet.ciiva.com/29888/sn74lv1t34-29888041.pdf?src-supplier=Avnet
footprint DBV0005A_M (SOT23, 5-Leads, Body 3.05x1.75mm, Pitch 0.95mm, IPC Low Density)
pins: 1 NC "Ground", 2 IN (in) "Input", 3 GND (power) "Ground Pin", 4 OUT (out) "Output", 5 VCC (power) "Power Pin"

## SRP1270-4R7M
designator L?  Inductance: 4.7uH  (hidden comment: *)
FIXED IND 4.7uH 20% SMD 1270; Manufacturer: Bourns; Manufacturer Part Number: SRP1270-4R7M; Core Material: Ferrite; DC Resistance (DCR): 11.2mR; Max DC Current: 15A; Saturation Current: 30A; Shielding: Shielded; Self Resonant Frequency: 15MHz; Test Frequency: 100kHz; Current: 35A; Supplier 1: Digi-Key; Stock 1: 8527; Pricing 1: 1 = 1.68000, 10 = 1.55300, 100 = 1.08680 (USD); RoHS: Yes; Mount: Surface Mount; Case/Package: 1270; Number of Pins: 2; Min Operating Temperature: -55°C; Max Operating Temperature: 125°C; Tolerance: 20%; Packaging: Tape and Reel; Package Quantity: 400; Current Rating: 15A; Inductance Tolerance: 20%; Composition: Wirewound; Termination: SMD/SMT; RMS Current (Irms): 15A; DC Current: 15A; Military Standard: Not; Length: 13.7mm; Height: 7mm; Width: 13.7mm; Height - Seated (Max): 0.276inch; Depth: 13.7mm; REACH SVHC: No SVHC; ComponentLink1URL: https://datasheet.ciiva.com/11803/0900766b80f2b679-11803001.pdf?src-supplier=RSComponents; ComponentLink1Description: https://datasheet.ciiva.com/11803/0900766b80f2b679-11803001.pdf?src-supplier=RSComponents; ComponentLink2URL: https://datasheet.ciiva.com/17286/srp1270-17286216.pdf?src-supplier=Avnet+Europe; ComponentLink2Description: https://datasheet.ciiva.com/17286/srp1270-17286216.pdf?src-supplier=Avnet+Europe; ComponentLink3URL: https://datasheet.ciiva.com/30242/484srp1270-30242620.pdf?src-supplier=Onlinecomponents.com; ComponentLink3Description: https://datasheet.ciiva.com/30242/484srp1270-30242620.pdf?src-supplier=Onlinecomponents.com; ComponentLink4URL: https://datasheet.ciiva.com/17045/70277161-17045933.pdf?src-supplier=Allied+Electronics; ComponentLink4Description: https://datasheet.ciiva.com/17045/70277161-17045933.pdf?src-supplier=Allied+Electronics; ComponentLink5URL: https://datasheet.ciiva.com/8515/srp1270-8515814.pdf?src-supplier=Avnet; ComponentLink5Description: https://datasheet.ciiva.com/8515/srp1270-8515814.pdf?src-supplier=Avnet; ComponentLink6URL: https://datasheet.ciiva.com/8517/srp1270-8517062.pdf?src-supplier=Avnet; ComponentLink6Description: https://datasheet.ciiva.com/8517/srp1270-8517062.pdf?src-supplier=Avnet; ComponentLink7URL: https://datasheet.ciiva.com/7849/1834359-7849561.pdf?src-supplier=Element14; ComponentLink7Description: https://datasheet.ciiva.com/7849/1834359-7849561.pdf?src-supplier=Element14; Supplier Part Number 1: SRP1270-4R7MCT-ND
footprint IND_BOURNS_SRP01_large
pins: 1, 2

## SRR1208-4R5ML
designator L?  Inductance: 4.5uH  (hidden comment: *)
FIXED IND 4.5UH 6.5A 14 MOHM SMD; Manufacturer: Bourns; Manufacturer Part Number: SRR1208-4R5ML; Core Material: Ferrite; Material: Steel; Tolerance: 20%; DC Resistance (DCR): 14mR; Saturation Current: 10A; Shielding: Shielded; Self Resonant Frequency: 30MHz; Q Factor: 24; Test Frequency: 1kHz; Supplier 1: Digi-Key; Stock 1: 831; Pricing 1: 1 = 1.13000, 10 = 1.04700, 100 = 0.75670 (USD); RoHS: Yes; Mount: Surface Mount; Case/Package: 1208; Min Operating Temperature: -40°C; Max Operating Temperature: 125°C; Max DC Current: 6.5A; Packaging: Tape and Reel; Package Quantity: 400; Current Rating: 6.5A; Frequency: 30MHz; Inductance Tolerance: 20%; Resistance: 14MR; Composition: Wirewound; Termination: SMD/SMT; DC Current: 6.5A; Military Standard: Not; RMS Current (Irms): 6.5A; Length: 12.7mm; Height: 8.5mm; Width: 0.5inch; Height - Seated (Max): 0.335inch; Depth: 13mm; REACH SVHC: No SVHC; ComponentLink1URL: https://datasheet.ciiva.com/11803/0900766b80defdeb-11803005.pdf?src-supplier=RSComponents; ComponentLink1Description: https://datasheet.ciiva.com/11803/0900766b80defdeb-11803005.pdf?src-supplier=RSComponents; ComponentLink2URL: https://datasheet.ciiva.com/1060/srr1208-1060209.pdf?src-supplier=Digi-Key; ComponentLink2Description: https://datasheet.ciiva.com/1060/srr1208-1060209.pdf?src-supplier=Digi-Key; ComponentLink3URL: https://datasheet.ciiva.com/1060/srr1208-1060210.pdf?src-supplier=Digi-Key; ComponentLink3Description: https://datasheet.ciiva.com/1060/srr1208-1060210.pdf?src-supplier=Digi-Key; ComponentLink4URL: https://datasheet.ciiva.com/30091/srr1208-30091109.pdf?src-supplier=Onlinecomponents.com; ComponentLink4Description: https://datasheet.ciiva.com/30091/srr1208-30091109.pdf?src-supplier=Onlinecomponents.com; ComponentLink5URL: https://datasheet.ciiva.com/17285/srr1208-17285910.pdf?src-supplier=Avnet+Europe; ComponentLink5Description: https://datasheet.ciiva.com/17285/srr1208-17285910.pdf?src-supplier=Avnet+Europe; ComponentLink6URL: https://datasheet.ciiva.com/7849/1483756-7849582.pdf?src-supplier=Element14; ComponentLink6Description: https://datasheet.ciiva.com/7849/1483756-7849582.pdf?src-supplier=Element14; Supplier Part Number 1: SRR1208-4R5MLCT-ND
footprint IND_BOURNS_SRR12
pins: 1, 2

## STM32F303RET6
designator U?
ARM Cortex-M4 32-bit MCU, 512 KB Flash, 80 KB Internal RAM, 51 I/Os, 64-Pin LQFP, -40 to 85 degC, Tray CMP-0537-00048-1; Operating Frequency(F) (Processor speed) (MHz): 72; FLASH Size (Prog) (kB): 512; Internal RAM Size (kB): 80; I/Os (High Current): 51; D/A Converter: 2; ComponentLink2Description: Datasheet; ComponentLink1URL: http://www.st.com/; ComponentLink1Description: Manufacturer URL; Package Description: 64-Pin Low-profile Quad Flat Package, Body 10 x 10 mm, Pitch 0.5 mm; Package Reference: LQFP64; Mounting Technology: Surface Mount; Packing: Tray; Core: ARM Cortex-M4; ComponentLink2URL: http://www.st.com/st-web-ui/static/active/en/resource/technical/document/datasheet/DM00118585.pdf; DatasheetVersion: Rev. 5; Supply Voltage(Vcc) min (V): 2
footprint STM-LQFP64_L (QFP, 64-Leads, Body 10x10mm, Pitch 0.5mm, IPC High Density)
footprint STM-LQFP64_M (QFP, 64-Leads, Body 10x10mm, Pitch 0.5mm, IPC Low Density)
footprint STM-LQFP64_N (QFP, 64-Leads, Body 10x10mm, Pitch 0.5mm, IPC Medium Density)
pins: 1 VBAT (power) "Backup power supply", 2 PC13 (io) "PC13/TIM1_CH1N/RTC_TAMP1/RTC_TS/RTC_OUT/WKUP2", 3 PC14/OSC32_IN (io), 4 PC15/OSC32_OUT (io), 5 PF0/OSC_IN (io) "PF0/TIM1_CH3N/OSC_IN", 6 PF1/OSC_OUT (io), 7 NRST (io) "Device reset input/internal reset output (active low)", 8 PC0 (io) "PC0/EVENTOUT,TIM1_CH1/ADC12_IN6", 9 PC1 (io) "PC1/EVENTOUT,TIM1_CH2/ADC12_IN7", 10 PC2 (io) "PC2/EVENTOUT,TIM1_CH3/ADC12_IN8", 11 PC3 (io) "PC3/EVENTOUT,TIM1_CH4,TIM1_BKIN2/ADC12_IN9", 12 VSSA/VREF- (power) "Analog ground/Negative reference voltage", 13 VDDA/VREF+ (power) "Analog power supply/Positive reference voltage", 14 PA0 (io) "PA0/TIM2_CH1/TIM2_ETR,TSC_G1_IO1,USART2_CTS,EVENTOUT/ADC1_IN1,RTC_TAMP2/WKUP1", 15 PA1 (io) "PA1/TIM2_CH2,TSC_G1_IO2,USART2_RTS_DE,TIM15_CH1N,EVENTOUT/ADC1_IN2,RTC_REFIN", 16 PA2 (io) "PA2/TIM2_CH3,TSC_G1_IO3,USART2_TX,COMP2_OUT,TIM15_CH1,EVENTOUT/ADC1_IN3,COMP2_INM", 17 PA3 (io) "PA3/TIM2_CH4,TSC_G1_IO4,USART2_RX,TIM15_CH2,EVENTOUT/ADC1_IN4", 18 VSS (power) "Ground", 19 VDD (power) "Digital power supply", 20 PA4 (io) "PA4/TIM3_CH2,TSC_G2_IO1,SPI1_NSS,USART2_CK,EVENTOUT/ADC2_IN1,DAC1_OUT1,COMP2_INM4,COMP4_INM4,COMP6_INM4", 21 PA5 (io) "PA5/TIM2_CH1/TIM2_ETR,TSC_G2_IO2,SPI1_SCK,EVENTOUT/ADC2_IN2,DAC1_OUT2,OPAMP2_VINM", 22 PA6 (io) "PA6/TIM16_CH1,TIM3_CH1,TSC_G2_IO3,SPI1_MISO,TIM1_BKIN,EVENTOUT/ADC2_IN3,DAC2_OUT1,OPAMP2_VOUT", 23 PA7 (io) "PA7/TIM17_CH1,TIM3_CH2,TSC_G2_IO4,SPI1_MOSI,TIM1_CH1N,EVENTOUT/ADC2_IN4,COMP2_INP,OPAMP2_VINP", 24 PC4 (io) "PC4/EVENTOUT,TIM1_ETR,USART1_TX/ADC2_IN5", 25 PC5 (io) "PC5/EVENTOUT,TIM15_BKIN,TSC_G3_IO1,USART1_RX/ADC2_IN11,OPAMP2_VINM", 26 PB0 (io) "PB0/TIM3_CH3,TSC_G3_IO2,TIM1_CH2N,EVENTOUT/ADC1_IN11,COMP4_INP,OPAMP2_VINP", 27 PB1 (io) "PB1/TIM3_CH4,TSC_G3_IO3,TIM1_CH3N,COMP4_OUT,EVENTOUT/ADC1_IN12", 28 PB2 (io) "PB2/TSC_G3_IO4,EVENTOUT/ADC2_IN12,COMP4_INM", 29 PB10 (io) "PB10/TIM2_CH3,TSC_SYNC,USART3_TX,EVENTOUT", 30 PB11 (io) "PB11/TIM2_CH4,TSC_G6_IO1,USART3_RX,EVENTOUT/COMP6_INP", 31 VSS (power) "Digital ground", 32 VDD (power) "Digital power supply", 33 PB12 (io) "PB12/TSC_G6_IO2,TIM1_BKIN,USART3_CK,EVENTOUT/ADC2_IN13", 34 PB13 (io) "PB13/TSC_G6_IO3,TIM1_CH1N,USART3_CTS,EVENTOUT/ADC1_IN13", 35 PB14 (io) "PB14/TIM15_CH1,TSC_G6_IO4,TIM1_CH2N,USART3_RTS_DE,EVENTOUT/ADC2_IN14,OPAMP2_VINP", 36 PB15 (io) "PB15/TIM15_CH2,TIM15_CH1N,TIM1_CH3N,EVENTOUT/ADC2_IN15,COMP6_INM,RTC_REFIN", 37 PC6 (io) "PC6/EVENTOUT,TIM3_CH1,COMP6_OUT", 38 PC7 (io) "PC7/EVENTOUT,TIM3_CH2", 39 PC8 (io) "PC8/EVENTOUT,TIM3_CH3", 40 PC9 (io) "PC9/EVENTOUT,TIM3_CH4", 41 PA8 (io) "PA8/MCO,TIM1_CH1,USART1_CK,EVENTOUT", 42 PA9 (io) "PA9/TSC_G4_IO1,TIM1_CH2,USART1_TX,TIM15_BKIN,TIM2_CH3,EVENTOUT", 43 PA10 (io) "PA10/TIM17_BKIN,TSC_G4_IO2,TIM1_CH3,USART1_RX,COMP6_OUT,TIM2_CH4,EVENTOUT", 44 PA11 (io) "PA11/TIM1_CH1N,USART1_CTS,CAN_RX,TIM1_CH4,TIM1_BKIN2,EVENTOUT", 45 PA12 (io) "PA12/TIM16_CH1,TIM1_CH2N,USART1_RTS_DE,COMP2_OUT,CAN_TX,TIM1_ETR,EVENTOUT", 46 PA13 (io) "PA13/JTMS/SWDAT,TIM16_CH1N,TSC_G4_IO3,IR_OUT,USART3_CTS,EVENTOUT", 47 VSS (power) "Ground", 48 VDD (power) "Digital power supply", 49 PA14 (io) "PA14/JTCK/SWCLK,TSC_G4_IO4,I2C1_SDA,TIM1_BKIN,USART2_TX,EVENTOUT", 50 PA15 (io) "PA15/JTDI,TIM2_CH1/TIM2_ETR,TSC_SYNC,I2C1_SCL,SPI1_NSS,USART2_RX,TIM1_BKIN,EVENTOUT", 51 PC10 (io) "PC10/EVENTOUT,USART3_TX", 52 PC11 (io) "PC11/EVENTOUT,USART3_RX", 53 PC12 (io) "PC12/EVENTOUT,USART3_CK", 54 PD2 (io) "PD2/EVENTOUT,TIM3_ETR", 55 PB3 (io) "PB3/JTDO/TRACESWO,TIM2_CH2,TSC_G5_IO1,SPI1_SCK,USART2_TX,TIM3_ETR,EVENTOUT", 56 PB4 (io) "PB4/NJTRST,TIM16_CH1,TIM3_CH1,TSC_G5_IO2,SPI1_MISO,USART2_RX,TIM17_BKIN,EVENTOUT", 57 PB5 (io) "PB5/TIM16_BKIN,TIM3_CH2,I2C1_SMBA,SPI1_MOSI,USART2_CK,TIM17_CH1,EVENTOUT", 58 PB6 (io) "PB6/TIM16_CH1N,TSC_G5_IO3,I2C1_SCL,USART1_TX,EVENTOUT", 59 PB7 (io) "PB7/TIM17_CH1N,TSC_G5_IO4,I2C1_SDA,USART1_RX,TIM3_CH4,EVENTOUT", 60 BOOT0 (in) "Boot memory selection", 61 PB8 (io) "PB8/TIM16_CH1,TSC_SYNC,I2C1_SCL,USART3_RX,CAN_RX,TIM1_BKIN,EVENTOUT", 62 PB9 (io) "PB9/TIM17_CH1,I2C1_SDA,IR_OUT,USART3_TX,COMP2_OUT,CAN_TX,EVENTOUT", 63 VSS (power) "Ground", 64 VDD (power) "Digital power supply"